# Altium footprint library PartsLib.PcbLib: 49 footprints (part 1 of 4)
Each footprint in its own frame and in the unit in brackets; x right, y up, seen from the top. Pads: shape width x height; smd on the part's side, far side on the other; paste and mask are expansions set on the pad; w line width, h text height; cw(c..) or ccw(c..) is an arc to the next point about the centre after c.
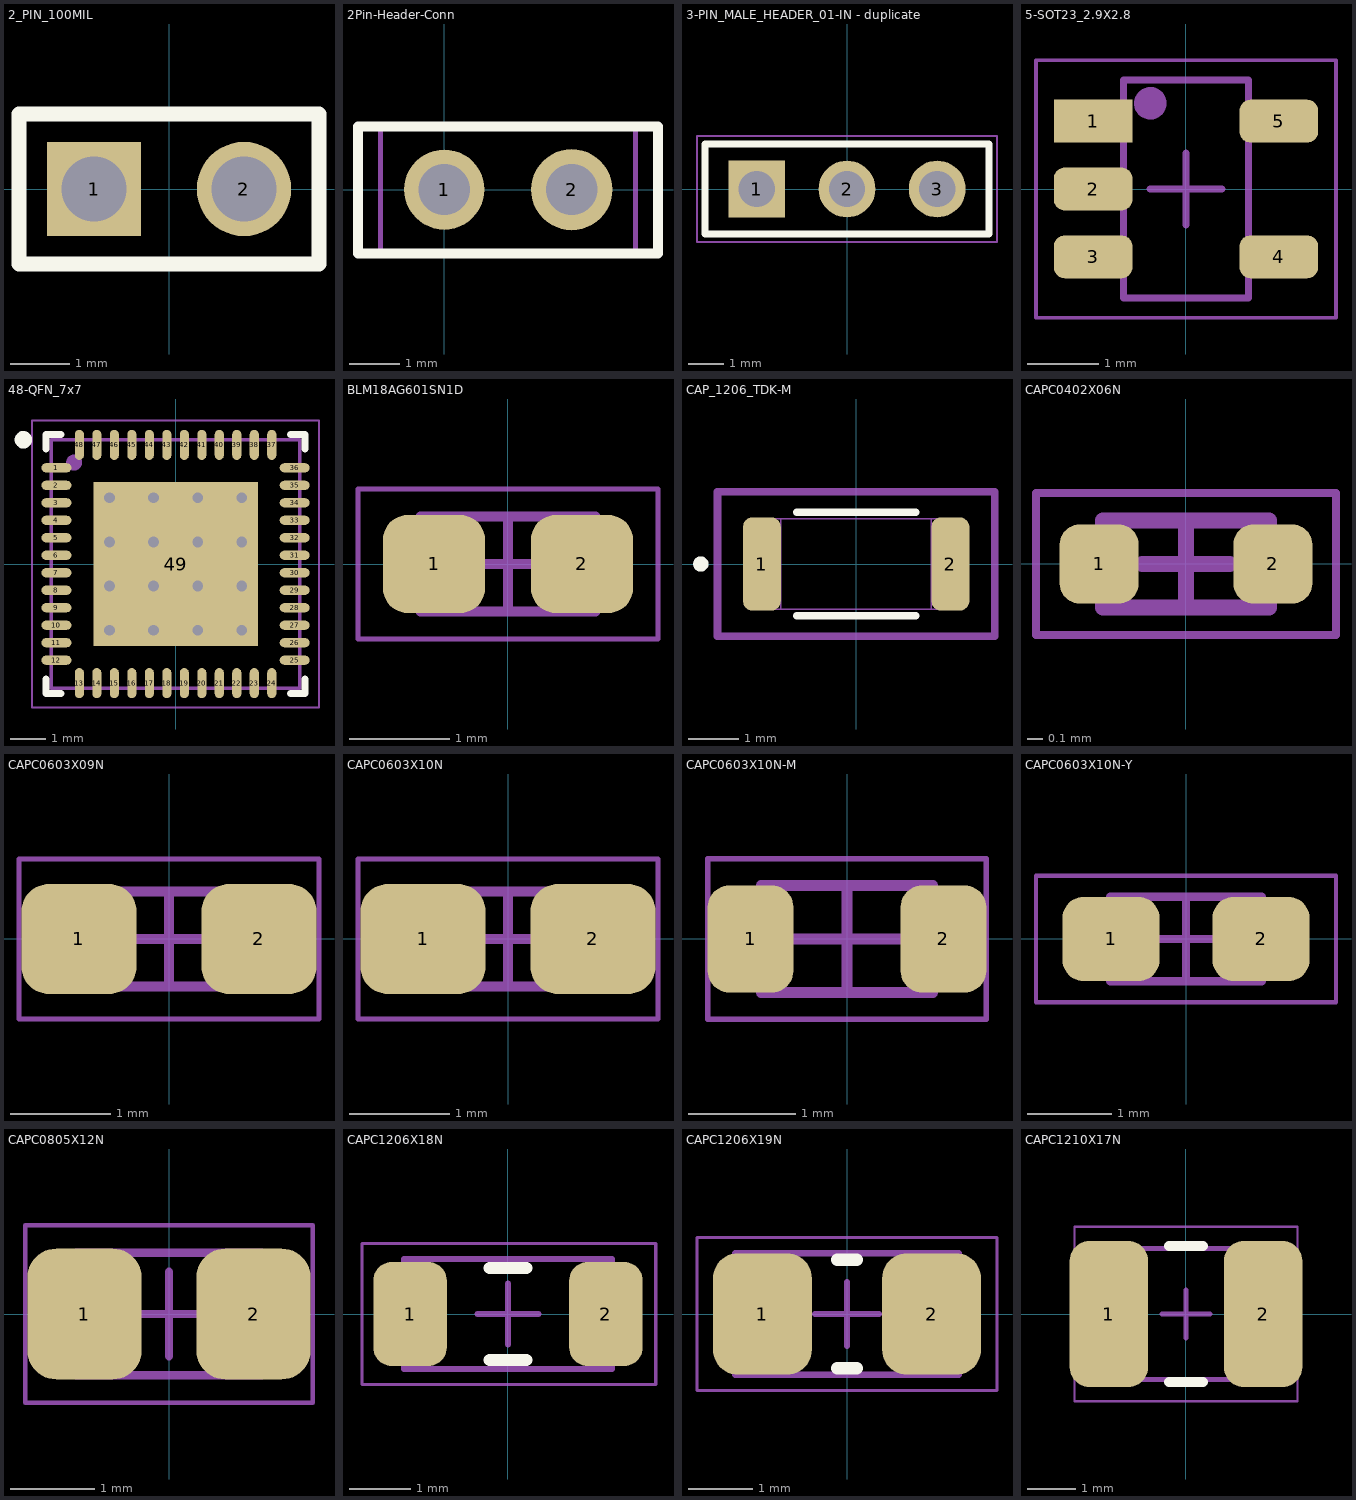
[diagram p0: the footprints below, top view; thin cyan lines are the x and y axes]

## 2_PIN_100MIL [mm]
pads (2):
  rect 1.6x1.6 hole 1.1: 1(-1.27,0)
  round 1.6 hole 1.1: 2(1.27,0)
Top Overlay:
  lines w0.254: -2.54,-1.27 -2.54,0 -2.54,1.27 0,1.27 2.54,1.27 2.54,-1.27 0,-1.27 -2.54,-1.27
Mechanical 13:
  lines w0.1: -2.54,-1.27 -2.54,1.27 2.54,1.27 2.54,-1.27 -2.54,-1.27
  text ".Designator" at -2.42,-0.933 h0.65
3D body "Header, Male, 2.54mm, 1x2.STEP": height 8.54, standoff -3, extent -2.54,-1.27 2.54,1.27

## 2Pin-Header-Conn [mm]
pads (2):
  round 1.6 hole 1.02: 1(0,0)
  round 1.62 hole 1.02: 2(2.54,0)
Top Overlay:
  lines w0.2: -1.72,-1.27 4.26,-1.27 4.26,1.261 -1.72,1.261 -1.72,-1.27
Top Solder:
  circle w0: c2.54,0 r0.861
  circle w0: c0,0 r0.861
Bottom Solder:
  circle w0: c2.54,0 r0.861
  circle w0: c0,0 r0.861
Mechanical 13:
  lines w0.1: -1.27,1.27 3.81,1.27 ; -1.27,1.295 -1.27,-1.27 3.81,-1.27 3.81,1.295
  text ".Designator" at -1.15,-0.933 h0.65
3D body "2Pin_C01DAAN.STEP": height 8.13, standoff -3.3, extent -1.27,-1.27 3.81,1.27

## 3-PIN_MALE_HEADER_01-IN - duplicate [mm] ".025 SQ Post Terminal Strip Assembly, 1x3 Pins, Vertical, 2.54mm Pitch, Male"
height 8.58
pads (3):
  rect 1.6x1.6 hole 1.02: 1(-2.54,0)
  round 1.6 hole 1.02: 2(0,0) 3(2.54,0)
Top Overlay:
  lines w0.2: -4,-1.27 -4,1.27 4,1.27 4,-1.27 -4,-1.27
Mechanical 13:
  lines w0.1: -4,-1.27 -4,1.27 4,1.27 4,-1.27 -4,-1.27
  text ".Designator" at -1.524,-0.635 h1.3
Mechanical 15:
  lines w0.05: -4.225,-1.495 -4.225,1.495 4.225,1.495 4.225,-1.495 -4.225,-1.495
  lines w0.1: -0.5,0 0.5,0 ; 0,-0.5 0,0.5
3D body "User Library-Header_Male_3Pin.STEP": height 8.54, standoff -3, extent -3.81,-1.27 3.81,1.22

## 5-SOT23_2.9X2.8 [mm] "SOT23, 5-Leads, Body 2.90x2.80mm, Pitch 0.95mm, IPC Medium Density"
height 1.45
pads (5):
  rect 1.1x0.6 smd: 1(-1.3,0.95)
  rrect50% 1.1x0.6 smd: 2(-1.3,0) 3(-1.3,-0.95) 4(1.3,-0.95) 5(1.3,0.95)
Mechanical 13:
  circle w0.254: c-0.5,1.2 r0.1
  lines w0.1: -0.875,-1.525 0.875,-1.525 0.875,1.525 -0.875,1.525 -0.875,-1.525
  text ".Designator" at -0.58,-0.963 h0.65
Mechanical 15:
  lines w0.05: -2.1,-1.8 2.1,-1.8 2.1,1.8 -2.1,1.8 -2.1,-1.8
  lines w0.1: -0.5,0 0.5,0 ; 0,-0.5 0,0.5
3D body "DBV0005A.stp": height 1.2, standoff 0, extent -1.4,-1.45 1.4,1.45

## 48-QFN_7x7 [mm] "QFN, 48-Leads, Body 7.00x7.00mm, Pitch 0.50mm, Thermal Pad 4.70x4.70mm, IPC Medium Density"
height 0.9
pads (49):
  oval 0.86x0.26 smd mask+0.064: 1(-3.405,2.75) 2(-3.405,2.25) 3(-3.405,1.75) 4(-3.405,1.25) 5(-3.405,0.75) 6(-3.405,0.25) 7(-3.405,-0.25) 8(-3.405,-0.75) 9(-3.405,-1.25) 10(-3.405,-1.75) 11(-3.405,-2.25) 12(-3.405,-2.75) 25(3.405,-2.75) 26(3.405,-2.25) 27(3.405,-1.75) 28(3.405,-1.25) 29(3.405,-0.75) 30(3.405,-0.25) 31(3.405,0.25) 32(3.405,0.75) 33(3.405,1.25) 34(3.405,1.75) 35(3.405,2.25) 36(3.405,2.75)
  oval 0.26x0.86 smd mask+0.064: 13(-2.75,-3.405) 14(-2.25,-3.405) 15(-1.75,-3.405) 16(-1.25,-3.405) 17(-0.75,-3.405) 18(-0.25,-3.405) 19(0.25,-3.405) 20(0.75,-3.405) 21(1.25,-3.405) 22(1.75,-3.405) 23(2.25,-3.405) 24(2.75,-3.405) 37(2.75,3.405) 38(2.25,3.405) 39(1.75,3.405) 40(1.25,3.405) 41(0.75,3.405) 42(0.25,3.405) 43(-0.25,3.405) 44(-0.75,3.405) 45(-1.25,3.405) 46(-1.75,3.405) 47(-2.25,3.405) 48(-2.75,3.405)
  rect 4.7x4.7 smd paste-3 mask+0.064: 49(0,0)
via -0.63,-1.89 diameter 0.61 hole 0.305
via 1.89,0.63 diameter 0.61 hole 0.305
via 0.63,0.63 diameter 0.61 hole 0.305
via -0.63,0.63 diameter 0.61 hole 0.305
via -1.89,0.63 diameter 0.61 hole 0.305
via -0.63,1.89 diameter 0.61 hole 0.305
via 0.63,1.89 diameter 0.61 hole 0.305
via -1.89,1.89 diameter 0.61 hole 0.305
via 1.89,1.89 diameter 0.61 hole 0.305
via -0.63,-0.63 diameter 0.61 hole 0.305
via 1.89,-0.63 diameter 0.61 hole 0.305
via -1.89,-1.89 diameter 0.61 hole 0.305
via 0.63,-1.89 diameter 0.61 hole 0.305
via -1.89,-0.63 diameter 0.61 hole 0.305
via 0.63,-0.63 diameter 0.61 hole 0.305
via 1.89,-1.89 diameter 0.61 hole 0.305
Top Overlay:
  circle w0.25: c-4.35,3.55 r0.125
  lines w0.2: -3.7,-3.28 -3.7,-3.7 -3.28,-3.7 ; -3.7,3.28 -3.7,3.7 -3.28,3.7 ; 3.28,-3.7 3.7,-3.7 3.7,-3.28 ; 3.28,3.7 3.7,3.7 3.7,3.28
Top Paste:
  rectangle: -1.81,0.71 -0.71,1.81
  rectangle: 0.71,-1.81 1.81,-0.71
  rectangle: -0.55,-1.81 0.55,-0.71
  rectangle: -1.81,-1.81 -0.71,-0.71
  rectangle: -1.81,-0.55 -0.71,0.55
  rectangle: -0.55,-0.55 0.55,0.55
  rectangle: 0.71,-0.55 1.81,0.55
  rectangle: 0.71,0.71 1.81,1.81
  rectangle: -0.55,0.71 0.55,1.81
Mechanical 13:
  circle w0.254: c-2.9,2.9 r0.1
  lines w0.1: -3.55,-3.55 -3.55,3.55 3.55,3.55 3.55,-3.55 -3.55,-3.55
  text ".Designator" at -3.18,-2.663 h0.65
Mechanical 15:
  lines w0.05: -4.1,-4.1 -4.1,4.1 4.1,4.1 4.1,-4.1 -4.1,-4.1
  lines w0.1: -0.5,0 0.5,0 ; 0,-0.5 0,0.5
3D body: height 0.9, standoff 0, extent -3.55,-3.55 3.55,3.55

## BLM18AG601SN1D [mm] "FERRITE BEAD 600 OHM 0603 1LN"
height 0.95
pads (2):
  rrect50% 1.02x0.98 smd mask+0.064: 1(-0.74,0) 2(0.74,0)
Mechanical 13:
  lines w0.1: -0.875,-0.475 -0.875,0.475 0.875,0.475 0.875,-0.475 -0.875,-0.475
  text ".Designator" at -0.755,-0.155 h0.6
Mechanical 15:
  lines w0.05: -1.5,-0.75 -1.5,0.75 1.5,0.75 1.5,-0.75 -1.5,-0.75
  lines w0.1: -0.475,0 0.475,0 ; 0,-0.475 0,0.475
3D body "BLM18AG601SN1D.step": height 0.95, standoff 0, extent -0.875,-0.475 0.875,0.475

## CAP_1206_TDK-M [mm]
pads (2):
  rrect50% 0.753x1.853 smd paste+0 mask+0.064: 1(-1.875,0) 2(1.875,0)
Top Overlay:
  circle w0.152: c-3.09,0 r0.076
  lines w0.152: -1.182,-1.029 1.182,-1.029 ; -1.182,1.029 1.182,1.029
Mechanical 13:
  circle w0: c-1.748,0 r0.076
  lines w0.025: -1.702,-0.902 -1.702,0.902 ; -1.702,-0.902 -1.499,-0.902 -1.499,0.902 -1.702,0.902 ; -1.702,-0.902 1.702,-0.902 ; -1.702,-0.902 -1.702,0.902 ; -1.702,0.902 1.702,0.902 ; 1.702,-0.902 1.499,-0.902 1.499,0.902 1.702,0.902 ; 1.702,-0.902 1.702,0.902 ; 1.702,-0.902 1.702,0.902
  text ".Designator" at -1.582,-0.565 h0.65
Mechanical 15:
  lines w0.152: -2.76,-1.435 -2.76,1.435 2.76,1.435 2.76,-1.435 -2.76,-1.435
3D body "CAP_3216_TDK.step": height 1.24, standoff 0, extent -1.702,-0.902 1.702,0.902

## CAPC0402X06N [mm] "Chip Capacitor, 2-Leads, Body 1.00x0.50mm, IPC Medium Density"
height 0.55
pads (2):
  rrect50% 0.5x0.5 smd mask+0.064: 1(-0.55,0) 2(0.55,0)
Mechanical 13:
  lines w0.1: -0.525,-0.275 -0.525,0.275 0.525,0.275 0.525,-0.275 -0.525,-0.275
  text ".Designator" at -0.405,0.062 h0.65
Mechanical 15:
  lines w0.05: -0.95,-0.45 -0.95,0.45 0.95,0.45 0.95,-0.45 -0.95,-0.45
  lines w0.1: -0.275,0 0.275,0 ; 0,-0.275 0,0.275
3D body "CAPC0402X06N.step": height 0.55, standoff 0, extent -0.525,-0.275 0.525,0.275

## CAPC0603X09N [mm] "Chip Capacitor, 2-Leads, Body 1.60x0.80mm, IPC Medium Density"
height 0.92
pads (2):
  rrect50% 1.15x1.1 smd mask+0.064: 1(-0.9,0) 2(0.9,0)
Mechanical 13:
  lines w0.1: -0.875,-0.475 0.875,-0.475 0.875,0.475 -0.875,0.475 -0.875,-0.475
  text ".Designator" at -0.755,-0.138 h0.65
Mechanical 15:
  lines w0.05: -1.5,-0.8 1.5,-0.8 1.5,0.8 -1.5,0.8 -1.5,-0.8
  lines w0.1: -0.475,0 0.475,0 ; 0,-0.475 0,0.475
3D body "CAPC0603X09N.step": height 0.92, standoff 0, extent -0.875,-0.475 0.875,0.475

## CAPC0603X10N [mm] "Chip Capacitor, 2-Leads, Body 1.60x0.80mm, IPC Medium Density"
height 0.95
pads (2):
  rrect50% 1.25x1.1 smd mask+0.064: 1(-0.85,0) 2(0.85,0)
Mechanical 13:
  lines w0.1: -0.885,-0.475 0.885,-0.475 0.885,0.475 -0.885,0.475 -0.885,-0.475
  text ".Designator" at -0.765,-0.138 h0.65
Mechanical 15:
  lines w0.05: -1.5,-0.8 1.5,-0.8 1.5,0.8 -1.5,0.8 -1.5,-0.8
  lines w0.1: -0.475,0 0.475,0 ; 0,-0.475 0,0.475
3D body "CAPC0603X10N.step": height 0.95, standoff 0, extent -0.885,-0.475 0.885,0.475

## CAPC0603X10N-M [mm] "Chip Capacitor, 2-Leads, Body 1.50x0.80mm, IPC Medium Density"
height 1
pads (2):
  rrect50% 0.8x1 smd mask+0.064: 1(-0.9,0) 2(0.9,0)
Mechanical 13:
  lines w0.1: -0.8,-0.5 0.8,-0.5 0.8,0.5 -0.8,0.5 -0.8,-0.5
  text ".Designator" at -0.68,-0.163 h0.65
Mechanical 15:
  lines w0.05: -1.3,-0.75 1.3,-0.75 1.3,0.75 -1.3,0.75 -1.3,-0.75
  lines w0.1: -0.5,0 0.5,0 ; 0,-0.5 0,0.5
3D body "CAPC0603X10N-M.step": height 1, standoff 0, extent -0.8,-0.5 0.8,0.5

## CAPC0603X10N-Y [mm] "Chip Capacitor, 2-Leads, Body 1.60x0.80mm, IPC Medium Density"
height 1
pads (2):
  rrect50% 1.15x1 smd mask+0.064: 1(-0.889,0) 2(0.889,0)
Mechanical 13:
  lines w0.1: -0.9,-0.5 -0.9,0.5 0.9,0.5 0.9,-0.5 -0.9,-0.5
  text ".Designator" at -0.78,-0.163 h0.65
Mechanical 15:
  lines w0.05: -1.778,-0.75 -1.778,0.75 1.778,0.75 1.778,-0.75 -1.778,-0.75
  lines w0.1: -0.5,0 0.5,0 ; 0,-0.5 0,0.5
3D body "CAPC0603X10N-Y.step": height 1, standoff 0, extent -0.9,-0.5 0.9,0.5

## CAPC0805X12N [mm] "Chip Capacitor, 2-Leads, Body 2.00x1.25mm, IPC Medium Density"
height 1.2
pads (2):
  rrect50% 1.35x1.55 smd mask+0.064: 1(-1,0) 2(1,0)
Mechanical 13:
  lines w0.1: -1.1,-0.725 -1.1,0.725 1.1,0.725 1.1,-0.725 -1.1,-0.725
  text ".Designator" at -0.98,-0.388 h0.65
Mechanical 15:
  lines w0.05: -1.7,-1.05 -1.7,1.05 1.7,1.05 1.7,-1.05 -1.7,-1.05
  lines w0.1: -0.5,0 0.5,0 ; 0,-0.5 0,0.5
3D body "CAPC0805X12N.step": height 1.2, standoff 0, extent -1.1,-0.725 1.1,0.725

## CAPC1206X18N [mm] "Chip Capacitor, 2-Leads, Body 3.20x1.60mm, IPC Medium Density"
height 1.8
pads (2):
  rrect50% 1.2x1.7 smd mask+0.064: 1(-1.6,0) 2(1.6,0)
Top Overlay:
  lines w0.2: -0.3,-0.75 0.3,-0.75 ; -0.3,0.75 0.3,0.75
Mechanical 13:
  lines w0.1: -1.7,-0.9 1.7,-0.9 1.7,0.9 -1.7,0.9 -1.7,-0.9
  text ".Designator" at -1.58,-0.563 h0.65
Mechanical 15:
  lines w0.05: -2.388,-1.15 2.413,-1.15 2.413,1.15 -2.388,1.15 -2.388,-1.15
  lines w0.1: -0.5,0 0.5,0 ; 0,-0.5 0,0.5
3D body "CAPC1206X18N.step": height 1.8, standoff 0, extent -1.7,-0.9 1.7,0.9

## CAPC1206X19N [mm] "Chip Capacitor, 2-Leads, Body 3.20x1.60mm, IPC Medium Density"
height 1.9
pads (2):
  rrect50% 1.55x1.9 smd mask+0.064: 1(-1.325,0) 2(1.325,0)
Top Overlay:
  lines w0.2: -0.15,-0.85 0.15,-0.85 ; -0.15,0.85 0.15,0.85
Mechanical 13:
  lines w0.1: -1.75,-0.95 -1.75,0.95 1.75,0.95 1.75,-0.95 -1.75,-0.95
  text ".Designator" at -1.63,-0.613 h0.65
Mechanical 15:
  lines w0.05: -2.35,-1.2 -2.35,1.2 2.35,1.2 2.35,-1.2 -2.35,-1.2
  lines w0.1: -0.5,0 0.5,0 ; 0,-0.5 0,0.5
3D body "CAPC3216X19N.step": height 1.9, standoff 0, extent -1.75,-0.95 1.75,0.95

## CAPC1210X17N [mm] "Chip Capacitor, 2-Leads, Body 3.20x2.50mm, IPC Medium Density"
height 1.7
pads (2):
  rrect50% 1.62x3.01 smd mask+0.064: 1(-1.59,0) 2(1.59,0)
Top Overlay:
  lines w0.2: -0.35,-1.405 0.35,-1.405 ; -0.35,1.405 0.35,1.405
Mechanical 13:
  lines w0.1: -1.7,-1.35 1.7,-1.35 1.7,1.35 -1.7,1.35 -1.7,-1.35
  text ".Designator" at -1.58,-1.013 h0.65
Mechanical 15:
  lines w0.05: -2.3,-1.8 2.3,-1.8 2.3,1.8 -2.3,1.8 -2.3,-1.8
  lines w0.1: -0.5,0 0.5,0 ; 0,-0.5 0,0.5
3D body "CAPC1210X17N.step": height 1.7, standoff 0, extent -1.7,-1.35 1.7,1.35